# EAGLE library part ST-GYRO-PR (library SparkFun-Sensors)
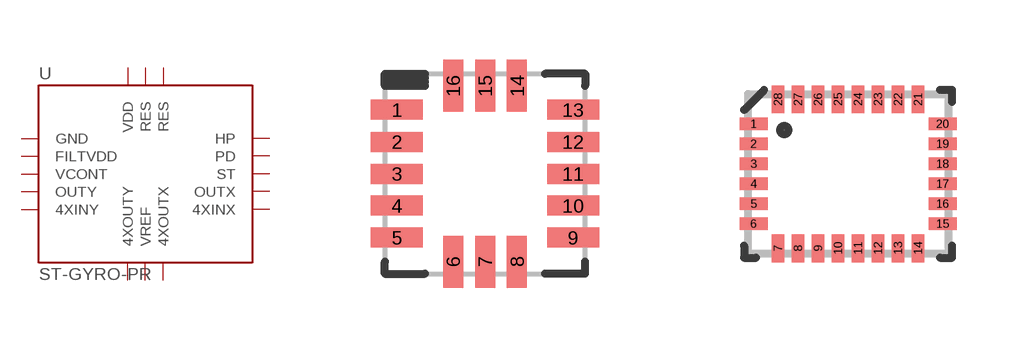
[diagram p52: symbol with the pads of ST-GYRO; footprints ST-GYRO, LGA28-4X5]

Designator prefix -

## ST-GYRO-PRLGA  [ST-GYRO]
1  GND
2  FILTVDD
3  VCONT
4  OUTY
5  4XINY
6  4XOUTY
7  VREF
8  4XOUTX
9  4XINX
10  OUTX
11  ST
12  PD
13  HP
14  RES
15  RES
16  VDD

## ST-GYRO-PRLGA28  [LGA28-4X5]
1  OUTX
5  4XINX
7  4XOUTX
9  VDD
14  4XOUTY
16  4XINY
17  VCONT
18  FILTVDD
19  RES
20  OUTY
22  VREF
24  HP
25  RES
26  GND
27  ST
28  PD

## Footprint ST-GYRO (pad centres in mm)
smd 1.3 x 0.5: 1 -2.2,1.6; 2 -2.2,0.8; 3 -2.2,0; 4 -2.2,-0.8; 5 -2.2,-1.6; 9 2.2,-1.6; 10 2.2,-0.8; 11 2.2,0; 12 2.2,0.8; 13 2.2,1.6
smd 0.5 x 1.3: 6 -0.8,-2.2; 7 0,-2.2; 8 0.8,-2.2; 14 0.8,2.2; 15 0,2.2; 16 -0.8,2.2

## Footprint LGA28-4X5 (pad centres in mm)
smd 0.7 x 0.31: 1 -2.362,1.25; 2 -2.362,0.75; 3 -2.362,0.25; 4 -2.362,-0.25; 5 -2.362,-0.75; 6 -2.362,-1.25; 15 2.362,-1.25; 16 2.362,-0.75; 17 2.362,-0.25; 18 2.362,0.25; 19 2.362,0.75; 20 2.362,1.25
smd 0.31 x 0.7: 7 -1.75,-1.863; 8 -1.25,-1.863; 9 -0.75,-1.863; 10 -0.25,-1.863; 11 0.25,-1.863; 12 0.75,-1.863; 13 1.25,-1.863; 14 1.75,-1.863; 21 1.75,1.863; 22 1.25,1.863; 23 0.75,1.863; 24 0.25,1.863; 25 -0.25,1.863; 26 -0.75,1.863; 27 -1.25,1.863; 28 -1.75,1.863